# EAGLE library part 74154 (library rgb_cube)
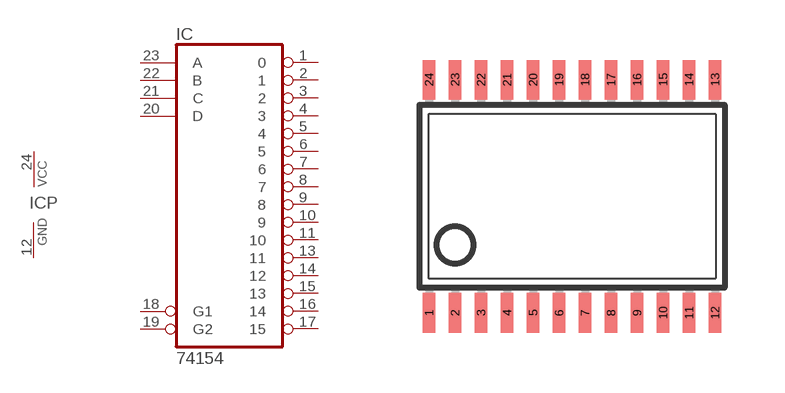
[diagram p72: symbol with the pads of TSSOP-24; footprint TSSOP-24]

Designator prefix IC; gates =74154 P=PWRGND

## 74154PW  [TSSOP-24]
1  :0  out
2  :1  out
3  :2  out
4  :3  out
5  :4  out
6  :5  out
7  :6  out
8  :7  out
9  :8  out
10  :9  out
11  :10  out
12  P:GND  pwr
13  :11  out
14  :12  out
15  :13  out
16  :14  out
17  :15  out
18  :G1  in
19  :G2  in
20  :D  in
21  :C  in
22  :B  in
23  :A  in
24  P:VCC  pwr

## Footprint TSSOP-24 (pad centres in mm)
smd 0.305 x 0.991: 1 -3.575,-2.918; 2 -2.925,-2.918; 3 -2.275,-2.918; 4 -1.625,-2.918; 5 -0.975,-2.918; 6 -0.325,-2.918; 7 0.325,-2.918; 8 0.975,-2.918; 9 1.625,-2.918; 10 2.275,-2.918; 11 2.925,-2.918; 12 3.575,-2.918; 13 3.575,2.918; 14 2.925,2.918; 15 2.275,2.918; 16 1.625,2.918; 17 0.975,2.918; 18 0.325,2.918; 19 -0.325,2.918; 20 -0.975,2.918; 21 -1.625,2.918; 22 -2.275,2.918; 23 -2.925,2.918; 24 -3.575,2.918